# Altium schematic symbol library gpr.SchLib: 1 symbol
Pins are listed as number, name and electrical type; pins without a type are passive.

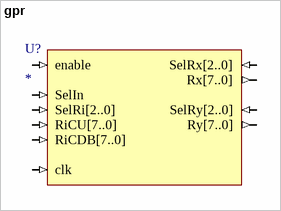
[diagram p0: symbol gpr]

## gpr
designator U?
pins: clk (in), enable (in), RiCDB[7..0] (in), RiCU[7..0] (in), Rx[7..0] (out), Ry[7..0] (out), SelIn (in), SelRi[2..0] (in), SelRx[2..0] (in), SelRy[2..0] (in)